# Altium schematic symbol library LM2596SX-ADJ_NOPB_Sch.SchLib: 1 symbol
Pins are listed as number, name and electrical type; pins without a type are passive.

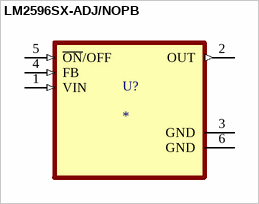
[diagram p0: symbol LM2596SX-ADJ/NOPB]

## LM2596SX-ADJ/NOPB
designator U?
Bá»™ Ä‘iá»u chá»‰nh háº¡ Ã¡p SIMPLE SWITCHERÂ® 4,5V Ä‘áº¿n 40V, 3A vá»›i sá»‘ lÆ°á»£ng thÃ nh pháº§n tháº¥p; MF: Texas Instruments; MP: LM2596SX-ADJ/NOPB; SnapEDA_Link: https://www.snapeda.com/parts/LM2596SX-ADJ/NOPB/Texas+Instruments/view-part/?ref=snap; Package: TO-263-5 Texas Instruments; Value: *; Check_prices: https://www.snapeda.com/parts/LM2596SX-ADJ/NOPB/Texas+Instruments/view-part/?ref=eda
footprint VREG_LM2596SX-ADJ/NOPB
pins: 1 VIN (in), 2 OUT (out), 3 GND (power), 4 FB (in), 5 ~{ON}/OFF (in), 6 GND (power)